# Altium schematic symbol library SCH - CONNECTORS - GENERIC - 8 PIN.SCHLIB: 1 symbol
Pins are listed as number, name and electrical type; pins without a type are passive.

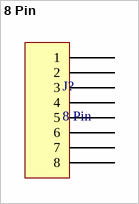
[diagram p0: symbol 8 Pin]

## 8 Pin
designator J?
footprint HDR1X8 (Connector; Header; 8 Position)
pins: 1, 2, 3, 4, 5, 6, 7, 8